# EAGLE library part SRGPHJ3200 (library SKAARHOJ)
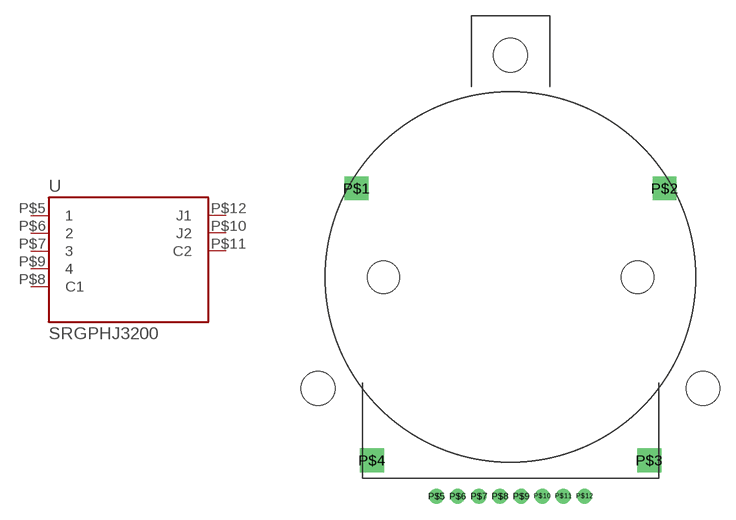
[diagram p91: symbol with the pads of SRGPHJ3200; footprint SRGPHJ3200]

Designator prefix -

## SRGPHJ3200  [SRGPHJ3200]
P$5  1
P$6  2
P$7  3
P$8  C1
P$9  4
P$10  J2
P$11  C2
P$12  J1

## Footprint SRGPHJ3200 (pad centres in mm)
drill 1.5 square: P$1 -14.55,8.4; P$2 14.55,8.4; P$3 13.1,-17.3; P$4 -13.1,-17.3
drill 0.9: P$5 -7,-20.7; P$6 -5,-20.7; P$7 -3,-20.7; P$8 -1,-20.7; P$9 1,-20.7; P$10 3,-20.7; P$11 5,-20.7; P$12 7,-20.7
hole 3.05 at -12,0
hole 3.05 at 12,0
hole 3.2 at 0,21
hole 3.2 at -18.186,-10.5
hole 3.2 at 18.186,-10.5